# Altium footprint library 2020-08-21_14-30-10.PcbLib: 3 footprints
Each footprint in its own frame and in the unit in brackets; x right, y up, seen from the top. Pads: shape width x height; smd on the part's side, far side on the other; paste and mask are expansions set on the pad; w line width, h text height; cw(c..) or ccw(c..) is an arc to the next point about the centre after c.
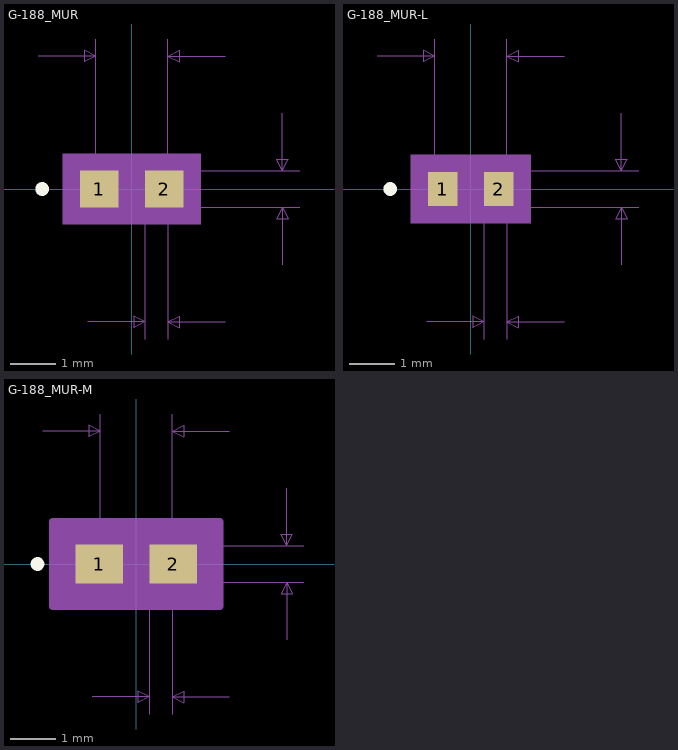
[diagram p0: the footprints below, top view; thin cyan lines are the x and y axes]

## G-188_MUR [mil]
pads (2):
  rect 33.78x32 smd paste+0 mask+0: 1(-28.39,0) 2(28.39,0)
Top Overlay:
  circle w6: c-78.28,0 r3
Mechanical 5:
  region: 60.28,-31 -60.28,-31 -60.28,31 60.28,31
Mechanical 7:
  lines w1: -81.5,116 -31.5,116 ; -38.5,-116 11.5,-116 ; -31.5,0 -31.5,131 ; 0,-16 146.5,-16 ; 0,16 146.5,16 ; 11.5,-131 11.5,0 ; 31.5,-131 31.5,0 31.5,131 ; 81.5,-116 31.5,-116 ; 81.5,116 31.5,116 ; 131.5,-66 131.5,-16 ; 131.5,66 131.5,16 ; -31.5,116 -41.5,121 -41.5,111 -31.5,116 ; 11.5,-116 1.5,-111 1.5,-121 11.5,-116 ; 31.5,-116 41.5,-111 41.5,-121 31.5,-116 ; 31.5,116 41.5,121 41.5,111 31.5,116 ; 131.5,-16 126.5,-26 136.5,-26 131.5,-16 ; 131.5,16 126.5,26 136.5,26 131.5,16
  text "Default Padstyle: r86_81" at -300,-286 h50
  text "Alternate 1 Padstyle: b152_229h76" at -412.5,-386 h50
  text "Alternate 2 Padstyle: b229_152h76" at -412.5,-486 h50
  text "0.032in/0.813mm" at 151.5,-12.5 h25
  text "0.063in/1.6mm" at -81.25,136 h25
  text "0.02in/0.508mm" at -66,-161 h25
Mechanical 13:
  circle w0: c-23.39,0 r3
  lines w1: -31.5,-16 -31.5,16 ; -31.5,-16 -11.5,-16 -11.5,16 -31.5,16 ; -31.5,-16 31.5,-16 ; -31.5,-16 -31.5,16 ; -31.5,16 31.5,16 ; 31.5,-16 11.5,-16 11.5,16 31.5,16 ; 31.5,-16 31.5,16 ; 31.5,-16 31.5,16
Mechanical 15:
  region: 55.28,-26 -55.28,-26 -55.28,26 55.28,26
  lines w6: -55.28,-26 -55.28,26 55.28,26 55.28,-26 -55.28,-26
3D body: height 10, standoff 0, extent 0,0 10,10

## G-188_MUR-L [mil]
pads (2):
  rect 25.91x30.03 smd paste+0 mask+0: 1(-24.45,0) 2(24.45,0)
Top Overlay:
  circle w6: c-70.41,0 r3
Mechanical 5:
  region: 52.41,-30.02 -52.41,-30.02 -52.41,30.02 52.41,30.02
Mechanical 7:
  lines w1: -81.5,116 -31.5,116 ; -38.5,-116 11.5,-116 ; -31.5,0 -31.5,131 ; 0,-16 146.5,-16 ; 0,16 146.5,16 ; 11.5,-131 11.5,0 ; 31.5,-131 31.5,0 31.5,131 ; 81.5,-116 31.5,-116 ; 81.5,116 31.5,116 ; 131.5,-66 131.5,-16 ; 131.5,66 131.5,16 ; -31.5,116 -41.5,121 -41.5,111 -31.5,116 ; 11.5,-116 1.5,-111 1.5,-121 11.5,-116 ; 31.5,-116 41.5,-111 41.5,-121 31.5,-116 ; 31.5,116 41.5,121 41.5,111 31.5,116 ; 131.5,-16 126.5,-26 136.5,-26 131.5,-16 ; 131.5,16 126.5,26 136.5,26 131.5,16
  text "Default Padstyle: r66_76" at -300,-285.02 h50
  text "Alternate 1 Padstyle: b152_229h76" at -412.5,-385.02 h50
  text "Alternate 2 Padstyle: b229_152h76" at -412.5,-485.02 h50
  text "0.032in/0.813mm" at 151.5,-12.5 h25
  text "0.063in/1.6mm" at -81.25,136 h25
  text "0.02in/0.508mm" at -66,-161 h25
Mechanical 13:
  circle w0: c-19.45,0 r3
  lines w1: -31.5,-16 -31.5,16 ; -31.5,-16 -11.5,-16 -11.5,16 -31.5,16 ; -31.5,-16 31.5,-16 ; -31.5,-16 -31.5,16 ; -31.5,16 31.5,16 ; 31.5,-16 11.5,-16 11.5,16 31.5,16 ; 31.5,-16 31.5,16 ; 31.5,-16 31.5,16
Mechanical 15:
  region: 41.41,-19.02 -41.41,-19.02 -41.41,19.02 41.41,19.02
  lines w6: -41.41,-19.02 -41.41,19.02 41.41,19.02 41.41,-19.02 -41.41,-19.02
3D body: height 10, standoff 0, extent 0,0 10,10

## G-188_MUR-M [mil]
pads (2):
  rect 41.65x33.97 smd paste+0 mask+0: 1(-32.33,0) 2(32.33,0)
Top Overlay:
  circle w6: c-86.15,0 r3
Mechanical 5:
  region: 68.15,-31.98 -68.15,-31.98 -68.15,31.98 68.15,31.98
Mechanical 7:
  lines w1: -81.5,116 -31.5,116 ; -38.5,-116 11.5,-116 ; -31.5,0 -31.5,131 ; 0,-16 146.5,-16 ; 0,16 146.5,16 ; 11.5,-131 11.5,0 ; 31.5,-131 31.5,0 31.5,131 ; 81.5,-116 31.5,-116 ; 81.5,116 31.5,116 ; 131.5,-66 131.5,-16 ; 131.5,66 131.5,16 ; -31.5,116 -41.5,121 -41.5,111 -31.5,116 ; 11.5,-116 1.5,-111 1.5,-121 11.5,-116 ; 31.5,-116 41.5,-111 41.5,-121 31.5,-116 ; 31.5,116 41.5,121 41.5,111 31.5,116 ; 131.5,-16 126.5,-26 136.5,-26 131.5,-16 ; 131.5,16 126.5,26 136.5,26 131.5,16
  text "Default Padstyle: r106_86" at -312.5,-286.98 h50
  text "Alternate 1 Padstyle: b152_229h76" at -412.5,-386.98 h50
  text "Alternate 2 Padstyle: b229_152h76" at -412.5,-486.98 h50
  text "0.032in/0.813mm" at 151.5,-12.5 h25
  text "0.063in/1.6mm" at -81.25,136 h25
  text "0.02in/0.508mm" at -66,-161 h25
Mechanical 13:
  circle w0: c-27.33,0 r3
  lines w1: -31.5,-16 -31.5,16 ; -31.5,-16 -11.5,-16 -11.5,16 -31.5,16 ; -31.5,-16 31.5,-16 ; -31.5,-16 -31.5,16 ; -31.5,16 31.5,16 ; 31.5,-16 11.5,-16 11.5,16 31.5,16 ; 31.5,-16 31.5,16 ; 31.5,-16 31.5,16
Mechanical 15:
  region: 73.15,-36.98 -73.15,-36.98 -73.15,36.98 73.15,36.98
  lines w6: -73.15,-36.98 -73.15,36.98 73.15,36.98 73.15,-36.98 -73.15,-36.98
3D body: height 10, standoff 0, extent 0,0 10,10